# Altium schematic symbol library Misc.SchLib: 2 symbols
Pins are listed as number, name and electrical type; pins without a type are passive.

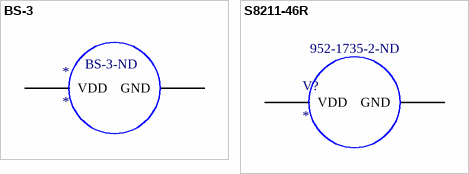
[diagram p0: symbols BS-3 to S8211-46R]

## BS-3
designator *  Supplier Part Number 1: BS-3-ND
HOLDER COINCELL 2032 RETAINR ARM; Manufacturer: MPD (Memory Protection Devices); Manufacturer Part Number: BS-3; Battery Type, Function: Coin Cell, Holder; Style: Holder (Open); Battery Cell Size: Coin, 20.0mm; Number of Cells: 1; Battery Series: 2032; Supplier 1: Digi-Key; RoHS: RoHS Compliant; Category: Battery Products; Stock 1: 12851; Pricing 1: 1=0.79, 10=0.733, 100=0.66, 500=0.58, 1000=0.51 (USD); Mounting Type: PCB, Through Hole; Termination Style: PC Pin; Height Above Board: -; Operating Temperature: -55°C ~ 105°C; ComponentLink1URL: http://www.memoryprotectiondevices.com/datasheets/BS-3-datasheet.pdf; ComponentLink1Description: http://www.memoryprotectiondevices.com/datasheets/BS-3-datasheet.pdf
footprint CR2032TH (Through Hole)
pins: 0 GND, 1 VDD

## S8211-46R
designator V?  Supplier Part Number 1: 952-1735-2-ND
HOLDER BATT COIN CR2032/20MM; Manufacturer: Harwin Inc; Manufacturer Part Number: S8211-46R; Battery Type, Function: Coin Cell, Retainer; Style: Retainer; Battery Cell Size: Coin, 20.0mm; Number of Cells: 1; Battery Series: 2016, 2020, 2025, 2032; Supplier 1: Digi-Key; RoHS: RoHS Compliant; Category: Battery Products; Stock 1: 1650; Pricing 1: 550=0.4716, 1100=0.4192, 1650=0.3799, 2750=0.34846, 5500=0.3406, 13750=0.3275, 27500=0.32095, 55000=0.3144 (USD); Mounting Type: PCB, Surface Mount; Termination Style: SMD (SMT) Tab; Height Above Board: 0.157" (4mm); Operating Temperature: -; ComponentLink1URL: http://www.harwin.com/include/downloads/drawings/S8211R.PDF; ComponentLink1Description: http://www.harwin.com/include/downloads/drawings/S8211R.PDF
footprint CR2032
pins: 0 VDD, 1 GND